# Altium schematic symbol library CentralNode.SCHLIB: 16 symbols
Pins are listed as number, name and electrical type; pins without a type are passive.

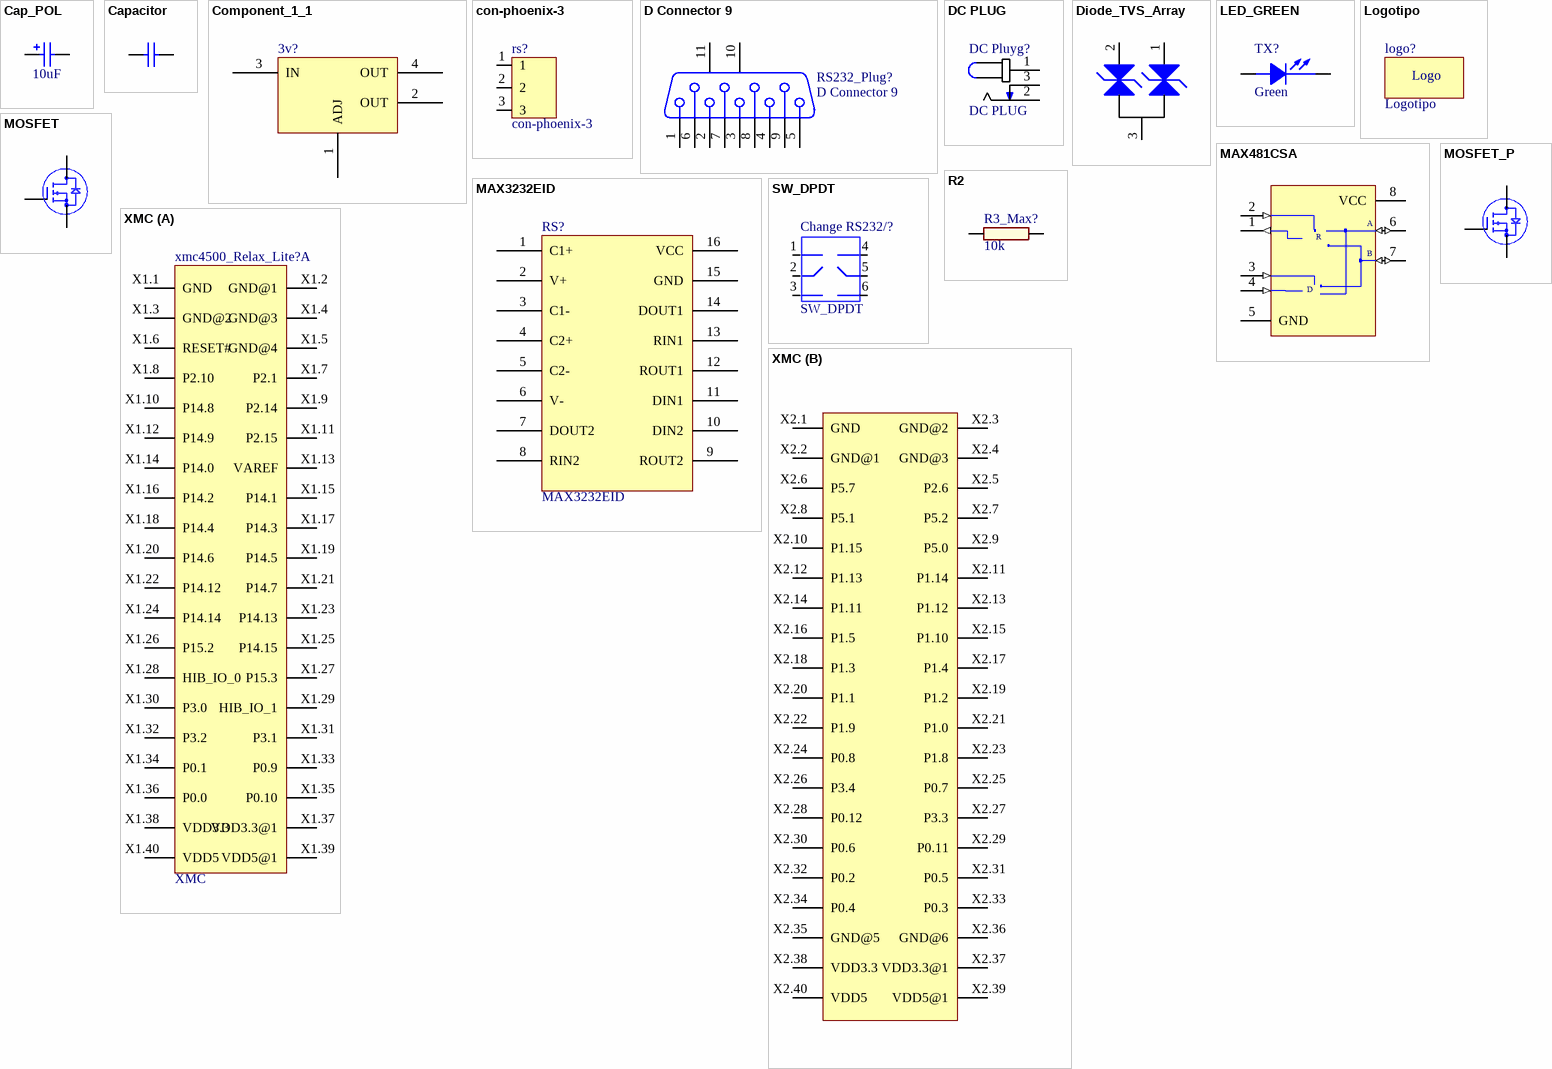
[diagram p0: symbols Cap_POL to XMC]

## Cap_POL
designator C1_5V?, comment 10uF
Capacitor; Value: 10uF
footprint Panasonic_D
footprint cap_tant_1206 (Capacitor, SM Tantalum; Body 3.2 x 1.6 mm (LxW typ))
footprint cap_tant_1210 (Capacitor, SM Tantalum; Body 3.5 x 2.8 mm (LxW typ))
footprint cap_tant_2312 (Capacitor, SM Tantalum; Body 6.0 x 3.2 mm (LxW typ))
footprint cap_tant_2917 (Capacitor, SM Tantalum; Body 7.3 x 4.3 mm (LxW typ))
footprint PANASONIC_B
pins: +, -

## Capacitor
designator C_3v3_out?  (value not drawn)
Value: 10 uF
footprint CAPC1005M (Chip Capacitor, Body 1.0x0.5mm, IPC Low Density)
footprint CAPC_0402 (Chip Capacitor, Body 1.0x0.5mm, IPC Low Density)
footprint CAPC_0805 (Chip Capacitor, Body 2.0x1.3mm, IPC Low Density)
footprint CAPC_1210 (Chip Capacitor, Body 3.2x2.5mm, IPC Low Density)
footprint CAPC_1206 (Chip Capacitor, Body 3.2x1.6mm, IPC Low Density)
footprint CAPC_1812 (Chip Capacitor)
pins: 1, 2

## Component_1_1
designator 3v?, comment Component_1  (value not drawn)
Value: IFX1117ME3V3
footprint PG-SOT-223
pins: 1 ADJ, 2 OUT, 3 IN, 4 OUT

## con-phoenix-3
designator rs?
footprint MCV3-LOCK
footprint MCV3
footprint phoenix_3_7,62
footprint MKDS3_3.81
footprint molex 3P
pins: 1 "phoenix Contact", 2, 3

## D Connector 9
designator RS232_Plug?
Receptacle Assembly, 9 Position, Right Angle; PackageDocument: O; Positions: 9; Published: 15-Jun-2001; LatestRevisionDate: 17-Jul-2002; LatestRevisionNote: Re-released for DXP Platform.; DatasheetDocument: 1-Sep-1999; PackageReference: 788750; Publisher: Altium Limited; Orientation: Right Angle; Gender: Receptacle
footprint DSUB1.385-2H9 (Connector; D Subminiature; 9 Position; Right Angle; Pitch 1.385 mm)
signal-integrity model Connector
pins: 1, 2, 3, 4, 5, 6, 7, 8, 9, 10 MH1, 11 MH2

## DC PLUG
designator DC Pluyg?
footprint DC Plug (5.5mmx2.1mm)
pins: 1, 2, 3

## Diode_TVS_Array
designator TVS?  (value not drawn)
Value: CDSOT23-SM712
footprint SOT23-3 (SOT23, 3)
pins: 1, 2, 3

## LED_GREEN
designator TX?, comment Green
LED 2X1.2MM 570NM GN WTR CLR SMD; Manufacturer: Kingbright; MPN: APT2012CGCK; VPN: 754-1127-1-ND; Vendor: Digikey; Value: Green
footprint CD2012-0805 (Chip Diode; Body 2.0 x 1.3 mm (LxW typ))
footprint LED100 - 3MM; pin to pad C>K
footprint LED100 - 5MM; pin to pad C>K
pins: A ANODE, C CATHODE

## Logotipo
designator logo?
footprint three_phase_converter (94x57mm Sem sensores)
footprint three_phase_converter_Sensor (94x57mm Com sensores)
footprint ucontroller (Micro Logotipo 15x15mm)
footprint FEUP_LOGO_1 (16.5 x 6.5 mm)
footprint FEUP_LOGO_2 (26.5 x 10.5 mm)
footprint PowerFlow_LOGO (16.5 x 6.5 mm)
footprint Dangerous_Logo (Micro Logotipo 15x15mm)
footprint DAB (94x57mm Sem sensores)
footprint ValorCast_LOGO
footprint ChestNut
text: Logo

## MAX481CSA
designator SNSN65HVD?  (value not drawn)
Low-Power, Slew-Rate-Limited RS-485/RS-422 Transceiver; Value: SN65HVD75DR; Published: 16-Jan-2001; LatestRevisionDate: 13-Apr-2006; LatestRevisionNote: IPC-7351 Footprint Added.; DatasheetVersion: Feb-1996; PackageReference: NSO8; Publisher: Altium Limited; PackageDescription: 8-Pin Small Outline Integrated Circuit 1.27 mm Pitch; Code_JEDEC: MS-012-AA; Code_IPC: SOIC127P600-8; ComponentLink1Description: Manufacturer Link; ComponentLink1URL: http://www.maxim-ic.com/; ComponentLink2Description: Datasheet; ComponentLink2URL: http://pdfserv.maxim-ic.com/en/ds/MAX1487-MAX491.pdf
footprint NSO8_N (SOIC, 8-Leads, Body 4.9x3.9mm, Pitch 1.27mm, IPC Medium Density)
footprint NSO8_L (SOIC, 8-Leads, Body 4.9x3.9mm, Pitch 1.27mm, IPC High Density)
footprint NSO8_M (SOIC, 8-Leads, Body 4.9x3.9mm, Pitch 1.27mm, IPC Low Density)
3D model NSO8 (8-Pin Small Outline Integrated Circuit 1.27 mm Pitch)
pins: 1 RO (out), 2 ~{RE} (in), 3 DE (in), 4 DI (in), 5 GND (power), 6 A (io), 7 B (io), 8 VCC (power)
text: R; D

## MAX3232EID
designator RS?
Value: MAX3232EIPWR
footprint TSSOP16
pins: 1 C1+, 2 V+, 3 C1-, 4 C2+, 5 C2-, 6 V-, 7 DOUT2, 8 RIN2, 9 ROUT2, 10 DIN2, 11 DIN1, 12 ROUT1, 13 RIN1, 14 DOUT1, 15 GND, 16 VCC

## MOSFET
designator Q?, comment BSS123  (value not drawn)
Mosfet; Value: BSS123
footprint SOT23-3 (SOT23, 3)
footprint SOT223; pin to pad 2>3 3>4
pins: 1 G, 2 S, 3 D

## MOSFET_P
designator Q?, comment ntr1p02  (value not drawn)
Mosfet_P; Value: ntr1p02
footprint SOT23-3 (SOT23, 3)
footprint SOT223; pin to pad 2>3 3>4
pins: 1 G, 2 S, 3 D

## R2
designator R3_Max?, comment 10k
Thick film resistor, SMD 0402, 1/16W, 1%; Manufacturer: Generic; Value: 10k
footprint RESC1005M (Chip Resistor, Body 1.1x0.5mm, IPC Low Density)
footprint RESC_0805 (Chip Resistor, Body 2.0x1.3mm, IPC Low Density)
footprint RESC_1206 (Chip Resistor, Body 3.2x1.6mm, IPC Low Density)
pins: 1, 2

## SW_DPDT
designator Change RS232/?
Value: AYZ
footprint AYZ Series
pins: 1, 2, 3, 4, 5, 6

## XMC
designator xmc4500_Relax_Lite?
footprint XMC4500_Relax_Lite
part A pins: X1.1 GND, X1.2 GND@1, X1.3 GND@2, X1.4 GND@3, X1.5 GND@4, X1.6 RESET#, X1.7 P2.1, X1.8 P2.10, X1.9 P2.14, X1.10 P14.8, X1.11 P2.15, X1.12 P14.9, X1.13 VAREF, X1.14 P14.0, X1.15 P14.1, X1.16 P14.2, X1.17 P14.3, X1.18 P14.4, X1.19 P14.5, X1.20 P14.6, X1.21 P14.7, X1.22 P14.12, X1.23 P14.13, X1.24 P14.14, X1.25 P14.15, X1.26 P15.2, X1.27 P15.3, X1.28 HIB_IO_0, X1.29 HIB_IO_1, X1.30 P3.0, X1.31 P3.1, X1.32 P3.2, X1.33 P0.9, X1.34 P0.1, X1.35 P0.10, X1.36 P0.0, X1.37 VDD3.3@1, X1.38 VDD3.3, X1.39 VDD5@1, X1.40 VDD5
part B pins: X2.1 GND, X2.2 GND@1, X2.3 GND@2, X2.4 GND@3, X2.5 P2.6, X2.6 P5.7, X2.7 P5.2, X2.8 P5.1, X2.9 P5.0, X2.10 P1.15, X2.11 P1.14, X2.12 P1.13, X2.13 P1.12, X2.14 P1.11, X2.15 P1.10, X2.16 P1.5, X2.17 P1.4, X2.18 P1.3, X2.19 P1.2, X2.20 P1.1, X2.21 P1.0, X2.22 P1.9, X2.23 P1.8, X2.24 P0.8, X2.25 P0.7, X2.26 P3.4, X2.27 P3.3, X2.28 P0.12, X2.29 P0.11, X2.30 P0.6, X2.31 P0.5, X2.32 P0.2, X2.33 P0.3, X2.34 P0.4, X2.35 GND@5, X2.36 GND@6, X2.37 VDD3.3@1, X2.38 VDD3.3, X2.39 VDD5@1, X2.40 VDD5